# EAGLE library part STM32F103RB (library Hauptstation)
STM32F103RB Digikey: 497-6066-ND
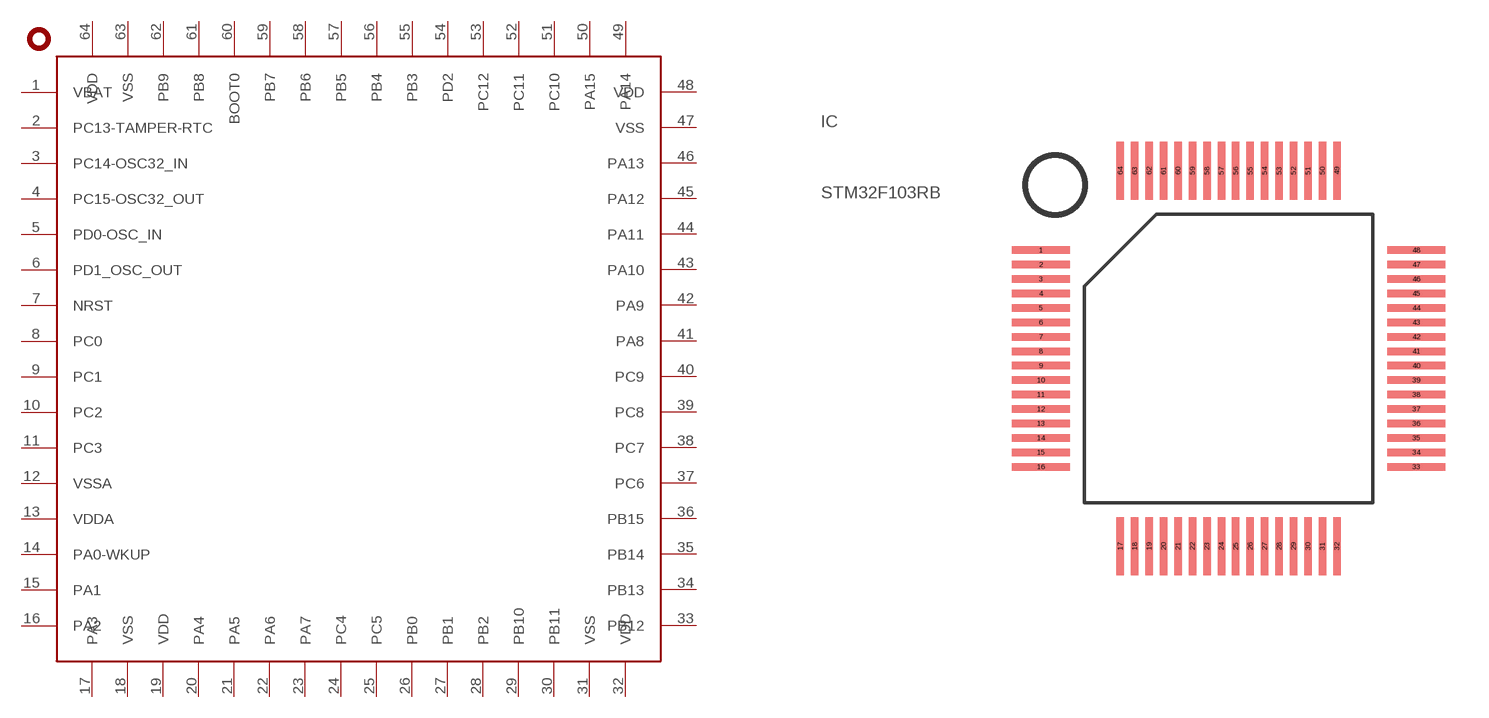
[diagram p4: symbol with the pads of LQFP64; footprint LQFP64]

Designator prefix IC

## STM32F103RB  [LQFP64]
1  VBAT
2  PC13-TAMPER-RTC
3  PC14-OSC32_IN
4  PC15-OSC32_OUT
5  PD0-OSC_IN
6  PD1_OSC_OUT
7  NRST
8  PC0
9  PC1
10  PC2
11  PC3
12  VSSA
13  VDDA
14  PA0-WKUP
15  PA1
16  PA2
17  PA3
18  VSS
19  VDD
20  PA4
21  PA5
22  PA6
23  PA7
24  PC4
25  PC5
26  PB0
27  PB1
28  PB2
29  PB10
30  PB11
31  VSS
32  VDD
33  PB12
34  PB13
35  PB14
36  PB15
37  PC6
38  PC7
39  PC8
40  PC9
41  PA8
42  PA9
43  PA10
44  PA11
45  PA12
46  PA13
47  VSS
48  VDD
49  PA14
50  PA15
51  PC10
52  PC11
53  PC12
54  PD2
55  PB3
56  PB4
57  PB5
58  PB6
59  PB7
60  BOOT0
61  PB8
62  PB9
63  VSS
64  VDD

## Footprint LQFP64 (pad centres in mm)
64-pin plastic LQFP
smd 2 x 0.26: 1 -6.75,4; 2 -6.75,3.5; 3 -6.75,3; 4 -6.75,2.5; 5 -6.75,2; 6 -6.75,1.5; 7 -6.75,1; 8 -6.75,0.5; 9 -6.75,0; 10 -6.75,-0.5; 11 -6.75,-1; 12 -6.75,-1.5; 13 -6.75,-2; 14 -6.75,-2.5; 15 -6.75,-3; 16 -6.75,-3.5; 33 6.25,-3.5; 34 6.25,-3; 35 6.25,-2.5; 36 6.25,-2; 37 6.25,-1.5; 38 6.25,-1; 39 6.25,-0.5; 40 6.25,0; 41 6.25,0.5; 42 6.25,1; 43 6.25,1.5; 44 6.25,2; 45 6.25,2.5; 46 6.25,3; 47 6.25,3.5; 48 6.25,4
smd 0.26 x 2: 17 -4,-6.25; 18 -3.5,-6.25; 19 -3,-6.25; 20 -2.5,-6.25; 21 -2,-6.25; 22 -1.5,-6.25; 23 -1,-6.25; 24 -0.5,-6.25; 25 0,-6.25; 26 0.5,-6.25; 27 1,-6.25; 28 1.5,-6.25; 29 2,-6.25; 30 2.5,-6.25; 31 3,-6.25; 32 3.5,-6.25; 49 3.5,6.75; 50 3,6.75; 51 2.5,6.75; 52 2,6.75; 53 1.5,6.75; 54 1,6.75; 55 0.5,6.75; 56 0,6.75; 57 -0.5,6.75; 58 -1,6.75; 59 -1.5,6.75; 60 -2,6.75; 61 -2.5,6.75; 62 -3,6.75; 63 -3.5,6.75; 64 -4,6.75